# Altium footprint library P16NP104MAB15.PcbLib: 1 footprints
Each footprint in its own frame and in the unit in brackets; x right, y up, seen from the top. Pads: shape width x height; smd on the part's side, far side on the other; paste and mask are expansions set on the pad; w line width, h text height; cw(c..) or ccw(c..) is an arc to the next point about the centre after c.
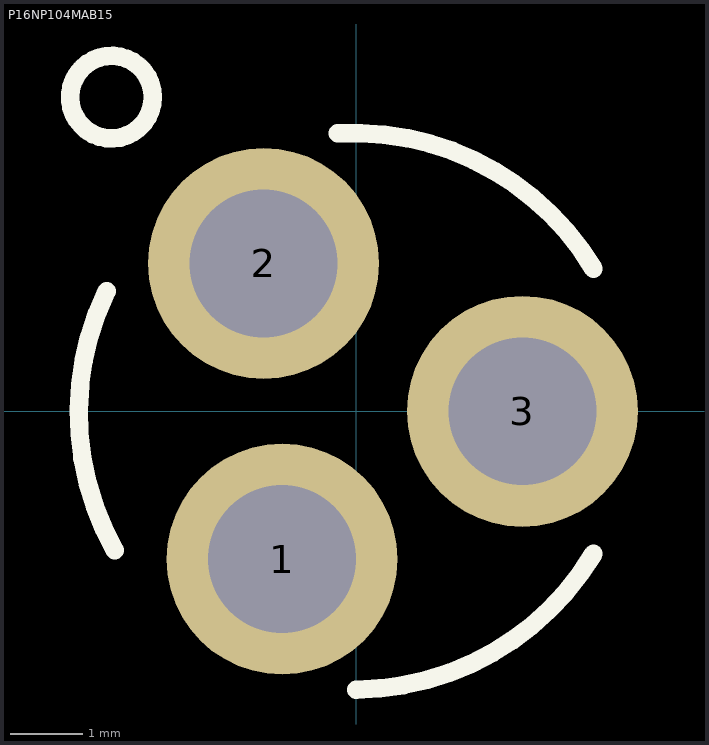
[diagram p0: the footprint, top view; thin cyan lines are the x and y axes]

## P16NP104MAB15 [mil]
pads (3):
  round 125 hole 80: 1(-40,-80) 2(-50,80) 3(90,0)
Top Overlay:
  circle w10: c-132.36,170 r22.36
  lines w10: -135.02,65.01 ccw(c1.11,-0.79) -130.47,-75.27 ; -10.02,150.37 cw(c-1.24,-0.56) 128.49,77.09 ; 0.01,-150.62 ccw(c-1.24,0.56) 128.49,-77.09
3D body: height 702.83, standoff -249.92, extent -314.95,-314.96 314.97,314.96